# Altium footprint library SW_Tactile_6x6.PcbLib: 1 footprints
Each footprint in its own frame and in the unit in brackets; x right, y up, seen from the top. Pads: shape width x height; smd on the part's side, far side on the other; paste and mask are expansions set on the pad; w line width, h text height; cw(c..) or ccw(c..) is an arc to the next point about the centre after c.
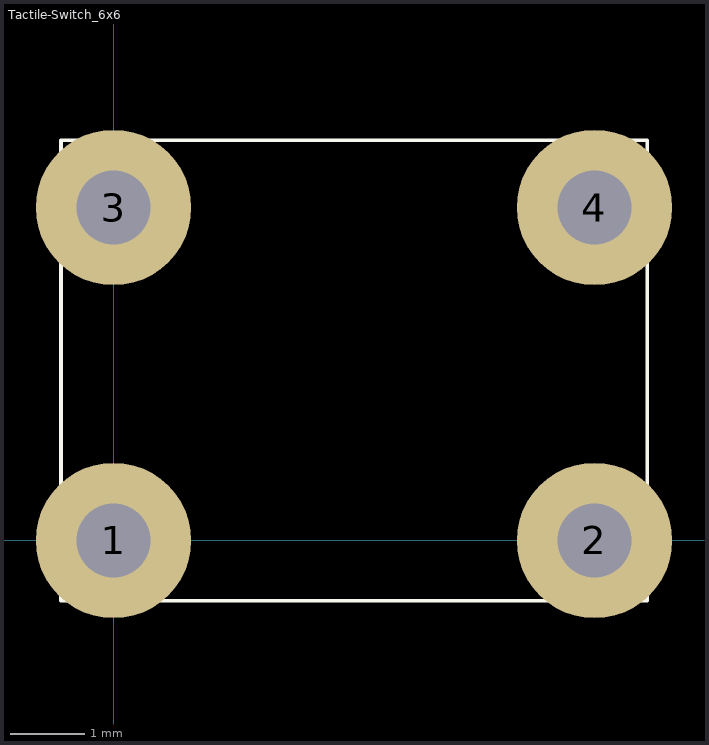
[diagram p0: the footprint, top view; thin cyan lines are the x and y axes]

## Tactile-Switch_6x6 [mm]
pads (4):
  round 2.1 hole 1: 1(0,0) 2(6.5,0) 3(0,4.5) 4(6.5,4.5)
Top Overlay:
  lines w0.051: -0.711,-0.813 3.556,-0.813 7.214,-0.813 7.214,5.41 -0.711,5.41 -0.711,-0.813
3D body: height 7, standoff -3.5, extent -0.699,-0.814 7.201,5.386